# Altium footprint library Control_Board_Model_C201.PcbLib: 124 footprints (part 7 of 8)
Each footprint in its own frame and in the unit in brackets; x right, y up, seen from the top. Pads: shape width x height; smd on the part's side, far side on the other; paste and mask are expansions set on the pad; w line width, h text height; cw(c..) or ccw(c..) is an arc to the next point about the centre after c.
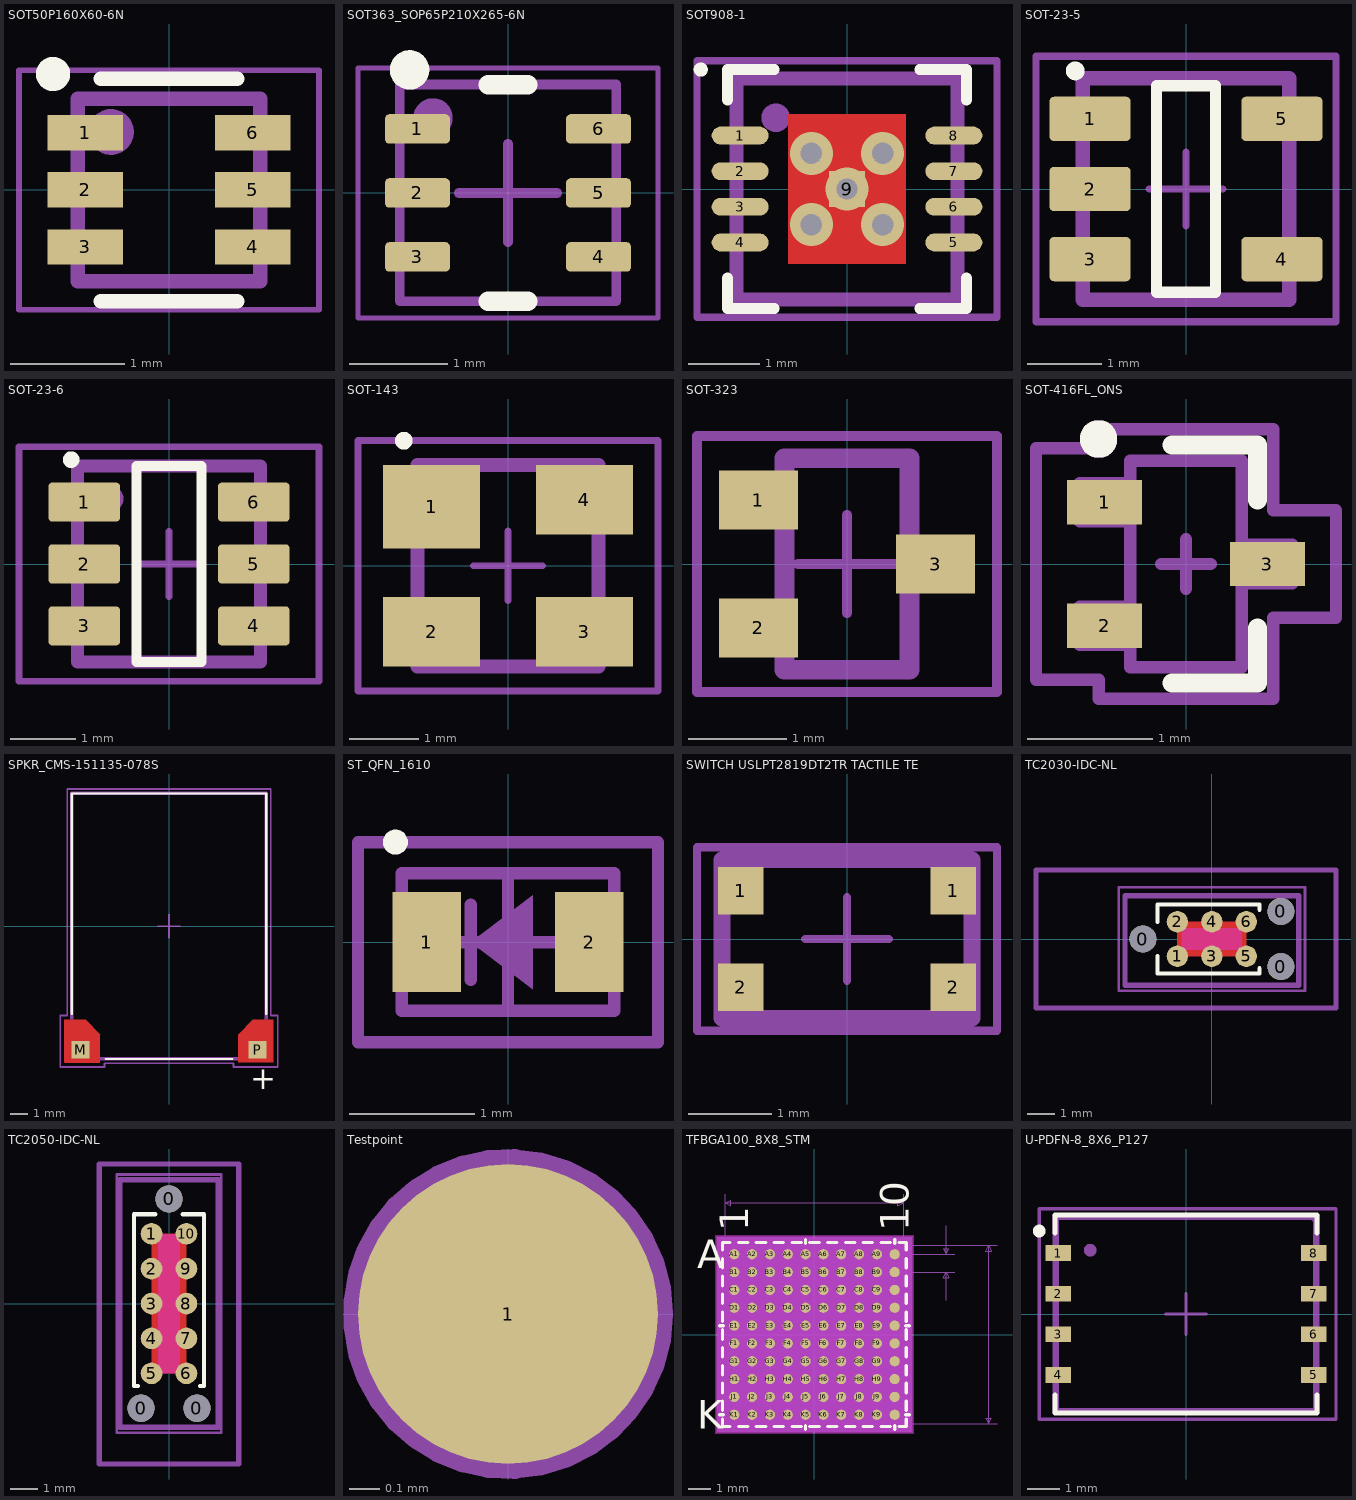
[diagram p6: the footprints below, top view; thin cyan lines are the x and y axes]

## SOT50P160X60-6N [mm]
pads (6):
  rect 0.66x0.31 smd: 1(-0.735,0.5) 2(-0.735,0) 3(-0.735,-0.5) 4(0.735,-0.5) 5(0.735,0) 6(0.735,0.5)
Top Overlay:
  circle w0.2: c-1.016,1.016 r0.05
  lines w0.127: -0.6,-0.975 0.6,-0.975 ; -0.6,0.975 0.6,0.975
Mechanical 14:
  circle w0.2: c-0.508,0.508 r0.1
  lines w0.127: -0.8,-0.8 -0.8,0.8 0.8,0.8 0.8,-0.8 -0.8,-0.8
  text "'.Designator'" at -0.381,-0.254 h0.5
Mechanical 15:
  lines w0.05: -1.315,-1.05 -1.315,1.05 1.315,1.05 1.315,-1.05 -1.315,-1.05
3D body "DRL0006A.stp": height 0.6, standoff 0, extent -0.8,-0.8 0.8,0.8

## SOT363_SOP65P210X265-6N [mm] "SOP, 6-Leads, Body 2.00x1.25mm, Pitch 0.65mm, IPC Medium Density"
height 2.65
pads (6):
  rrect30% 0.66x0.3 smd mask+0.05: 1(-0.92,0.65) 2(-0.92,0) 3(-0.92,-0.65) 4(0.92,-0.65) 5(0.92,0) 6(0.92,0.65)
Top Overlay:
  circle w0.2: c-1,1.25 r0.1
  lines w0.2: -0.2,-1.1 0.2,-1.1 ; -0.2,1.1 0.2,1.1
Mechanical 14:
  circle w0.2: c-0.762,0.762 r0.1
  lines w0.1: -1.1,-1.1 1.1,-1.1 1.1,1.1 -1.1,1.1 -1.1,-1.1
  text "'.Designator'" at -0.508,-0.254 h0.5
Mechanical 15:
  lines w0.05: -1.524,-1.27 1.524,-1.27 1.524,1.27 -1.524,1.27 -1.524,-1.27
  lines w0.1: -0.5,0 0.5,0 ; 0,-0.5 0,0.5
3D body "SOT-363.STEP": height 1.1, standoff 0, extent -1.1,-1.1 1.1,1.1

## SOT908-1 [mm]
pads (9):
  rrect100% 0.8x0.25 smd mask+0.05: 1(-1.5,0.75) 2(-1.5,0.25) 3(-1.5,-0.25) 4(-1.5,-0.75) 5(1.5,-0.75) 6(1.5,-0.25) 7(1.5,0.25) 8(1.5,0.75)
  rect 0.5x0.5 smd mask+0.05: 9(0,0)
via 0,0 diameter 0.605 hole 0.3
via -0.5,0.5 diameter 0.605 hole 0.3
via 0.5,0.5 diameter 0.605 hole 0.3
via 0.5,-0.5 diameter 0.605 hole 0.3
via -0.5,-0.5 diameter 0.605 hole 0.3
Top Layer:
  rectangle: -0.825,-1.05 0.825,1.05
Top Overlay:
  circle w0.1: c-2.052,1.676 r0.05
  lines w0.152: -1.676,-1.251 -1.676,-1.676 -1.021,-1.676 ; -1.676,1.251 -1.676,1.676 -1.021,1.676 ; 1.021,-1.676 1.676,-1.676 1.676,-1.251 ; 1.021,1.676 1.676,1.676 1.676,1.251
Top Paste:
  rectangle: -0.825,-1.05 0.825,1.05
Top Solder:
  rectangle: -0.875,-1.1 0.875,1.1
Mechanical 14:
  circle w0.2: c-1,1 r0.1
  lines w0.2: -1.55,-1.55 1.55,-1.55 1.55,1.55 -1.55,1.55 -1.55,-1.55
  text "'.Designator'" at -0.635,-0.254 h0.5
Mechanical 15:
  lines w0.1: -0.5,0 0.5,0 ; 0,-0.5 0,0.5 ; -2.105,-1.8 2.105,-1.8 2.105,1.8 -2.105,1.8 -2.105,-1.8
3D body "SON50P300X100_HS-9N.step": height 1, standoff 0, extent -1.551,-1.55 1.551,1.55

## SOT-23-5 [mm]
height 1
pads (5):
  rrect20% 1.1x0.6 smd mask+0.05: 1(-1.3,0.95) 2(-1.3,0) 3(-1.3,-0.95) 4(1.3,-0.95) 5(1.3,0.95)
Top Overlay:
  circle w0.152: c-1.5,1.6 r0.051
  lines w0.152: -0.4,-1.4 -0.4,1.4 0.4,1.4 0.4,-1.4 -0.4,-1.4
Mechanical 14:
  circle w0.2: c-1,1 r0.1
  lines w0.2: -1.4,-1.5 -1.4,1.5 1.4,1.5 1.4,-1.5 -1.4,-1.5
  text ".Designator" at -1,-0.2 h0.5
Mechanical 15:
  lines w0.1: -0.5,0 0.5,0 ; 0,-0.5 0,0.5 ; -2.032,-1.8 2.032,-1.8 2.032,1.8 -2.032,1.8 -2.032,-1.8
3D body "SOT-23-5.STEP": height 1.25, standoff 0, extent -1.4,-1.5 1.4,1.5

## SOT-23-6 [mm]
height 1
pads (6):
  rrect20% 1.1x0.6 smd mask+0.05: 1(-1.3,0.95) 2(-1.3,0) 3(-1.3,-0.95) 4(1.3,-0.95) 5(1.3,0) 6(1.3,0.95)
Top Overlay:
  circle w0.152: c-1.5,1.6 r0.051
  lines w0.152: -0.5,-1.5 0.5,-1.5 0.5,1.5 -0.5,1.5 -0.5,-1.5
Mechanical 14:
  circle w0.2: c-0.9,1 r0.1
  lines w0.2: -1.4,-1.5 1.4,-1.5 1.4,1.5 -1.4,1.5 -1.4,-1.5
  text ".Designator" at -1,-0.2 h0.5
Mechanical 15:
  lines w0.1: -0.5,0 0.5,0 ; 0,-0.5 0,0.5 ; -2.3,-1.8 -2.3,1.8 2.3,1.8 2.3,-1.8 -2.3,-1.8
3D body "SOT-23-6 (DBV).STEP": height 1.25, standoff 0, extent -1.4,-1.5 1.4,1.5

## SOT-143 [mm]
height 1.22
pads (4):
  rect 1.4x1.2 smd: 1(-1.1,0.85)
  rect 1.4x1 smd: 2(-1.1,-0.95) 3(1.1,-0.95) 4(1.1,0.95)
Top Overlay:
  circle w0.152: c-1.5,1.8 r0.051
Mechanical 14:
  circle w0.2: c-0.8,1 r0.1
  lines w0.2: -1.3,-1.448 1.3,-1.448 1.3,1.448 -1.3,1.448 -1.3,-1.448
  text "'.Designator'" at -0.8,-0.3 h0.5
Mechanical 15:
  lines w0.1: -0.5,0 0.5,0 ; 0,-0.5 0,0.5 ; -2.159,-1.8 2.159,-1.8 2.159,1.8 -2.159,1.8 -2.159,-1.8
3D body "SOT-143.STEP": height 1.17, standoff 0, extent -1.32,-1.45 1.32,1.45

## SOT-323 [mm]
height 1
pads (3):
  rect 0.8x0.6 smd: 1(-0.9,0.65) 2(-0.9,-0.65) 3(0.9,0)
Mechanical 14:
  circle w0.2: c-1.016,0.635 r0.05
  lines w0.2: -0.635,-1.075 0.635,-1.075 0.635,1.075 -0.635,1.075 -0.635,-1.075
  text "'.Designator'" at -0.7,1.4 h0.5
Mechanical 15:
  lines w0.1: -0.5,0 0.5,0 ; 0,-0.5 0,0.5 ; -1.524,-1.3 -1.524,1.3 1.524,1.3 1.524,-1.3 -1.524,-1.3
3D body "SOT-323.STEP": height 1.05, standoff 0, extent -1.05,-1.075 1.05,1.075

## SOT-416FL_ONS [mm]
pads (3):
  rect 0.6x0.356 smd: 1(-0.65,0.495) 2(-0.65,-0.495) 3(0.65,0)
Top Overlay:
  circle w0.2: c-0.7,1 r0.05
  lines w0.152: -0.111,-0.953 0.572,-0.953 0.572,-0.511 ; -0.111,0.953 0.572,0.953 0.572,0.511
Mechanical 14:
  circle w0.2: c-0.7,1 r0.05
  lines w0.1: -0.851,-0.648 -0.851,-0.343 -0.445,-0.343 -0.445,-0.648 -0.851,-0.648 ; -0.851,0.343 -0.851,0.648 -0.445,0.648 -0.445,0.343 -0.851,0.343 ; -0.445,-0.826 -0.445,0.826 0.445,0.826 0.445,-0.826 -0.445,-0.826 ; 0.445,-0.152 0.445,0.152 0.851,0.152 0.851,-0.152 0.445,-0.152
  text "'.Designator'" at 0.3,-0.7 h0.5
Mechanical 15:
  lines w0.1: -0.2,0 0.2,0 ; 0,-0.2 0,0.2 ; -1.2,-0.927 -0.699,-0.927 -0.699,-1.079 0.699,-1.079 0.699,-0.432 1.2,-0.432 1.2,0.432 0.699,0.432 0.699,1.079 -0.699,1.079 -0.699,0.927 -1.2,0.927 -1.2,-0.927
3D body "SOT-416FL_ONS.step": height 0.89, standoff 0, extent -0.851,-0.826 0.851,0.826

## SPKR_CMS-151135-078S [mm]
pads (2):
  rect 1x1 smd paste-1 mask+0: M(-5,-6.99) P(5,-6.99)
Top Layer:
  region: 5.9,-7.7 3.9,-7.7 3.9,-6.14 4.74,-5.3 5.9,-5.3
  region: -3.9,-6.14 -3.9,-7.7 -5.9,-7.7 -5.9,-5.3 -4.74,-5.3
  lines w0: -5.9,-7.7 -3.9,-7.7 -3.9,-6.14 -4.74,-5.3 -5.9,-5.3 -5.9,-7.7
Top Overlay:
  lines w0.127: -5.5,-4.95 -5.5,7.5 5.5,7.5 5.5,-4.95 ; -3.573,-7.5 3.573,-7.5
  text "+" at 4.6,-9.2 h1.27
Top Paste:
  region: 5.9,-7.7 3.9,-7.7 3.9,-6.14 4.74,-5.3 5.9,-5.3
  region: -3.9,-6.14 -3.9,-7.7 -5.9,-7.7 -5.9,-5.3 -4.74,-5.3
Top Solder:
  region: 6,-7.8 3.8,-7.8 3.8,-6.1 4.7,-5.2 6,-5.2
  region: -3.8,-6.1 -3.8,-7.8 -6,-7.8 -6,-5.2 -4.7,-5.2
Mechanical 14:
  lines w0.2: -5.5,-7.5 5.5,-7.5 5.5,7.5 -5.5,7.5 -5.5,-7.5
  text "+" at 3.33,-5.644 h1.27
  text "'.Designator'" at -1.2,-0.2 h0.5
Mechanical 15:
  lines w0.1: -0.635,0 0.635,0 ; 0,-0.635 0,0.635 ; -6.15,-7.95 -3.65,-7.95 -3.65,-7.75 3.65,-7.75 3.65,-7.95 6.15,-7.95 6.15,-5.05 5.75,-5.05 5.75,7.75 -5.75,7.75 -5.75,-5.05 -6.15,-5.05 -6.15,-7.95
3D body "CUI_DEVICES_CMS-151135-078S.step": height 4.5, standoff 0.02, extent -5.5,-7.493 5.5,7.507

## ST_QFN_1610 [mm] "2-UDFN"
height 0.6
pads (2):
  rect 0.55x0.8 smd: 1(-0.65,0) 2(0.65,0)
Top Overlay:
  circle w0.1: c-0.9,0.8 r0.05
Mechanical 14:
  region: -0.3,0 0.2,0.375 0.2,-0.375
  lines w0.1: -0.3,-0.3 -0.3,0.3 ; -0.85,-0.55 0.85,-0.55 0.85,0.55 -0.85,0.55 -0.85,-0.55
  text "'.Designator'" at -0.8,0.8 h0.5
Mechanical 15:
  lines w0.1: -0.5,0 0.5,0 ; 0,-0.5 0,0.5 ; -1.2,-0.8 1.2,-0.8 1.2,0.8 -1.2,0.8 -1.2,-0.8
3D body "ST_1610.step": height 0.6, standoff 0, extent -0.85,-0.55 0.85,0.55

## SWITCH USLPT2819DT2TR TACTILE TE [mm] "Tactile Switch SPST-NO Top Actuated Surface Mount"
height 0.6
pads (4):
  rect 0.55x0.57 smd: 1(-1.275,0.58) 1(1.275,0.58) 2(-1.275,-0.58) 2(1.275,-0.58)
Mechanical 14:
  lines w0.2: -1.5,-0.95 -1.5,0.95 1.5,0.95 1.5,-0.95 -1.5,-0.95
  text "'.Designator'" at -0.7,-0.2 h0.5
Mechanical 15:
  lines w0.1: -0.5,0 0.5,0 ; 0,-0.5 0,0.5 ; -1.8,-1.1 1.8,-1.1 1.8,1.1 -1.8,1.1 -1.8,-1.1
3D body "c-2337225-1-a-3d.stp": height 0.6, standoff 0, extent -1.5,-0.95 1.5,0.95

## TC2030-IDC-NL [mil] "Tag-Connect 6-Pin with No Legs (PN# TC2030-IDC-NL)"
pads (9):
  round 39 hole 39 unplated paste-20: 0(-100,0) 0(100,-40) 0(100,40)
  round 31 smd paste-16: 1(-50,-25) 2(-50,25) 3(0,-25) 4(0,25) 5(50,-25) 6(50,25)
Top Layer:
  pour cut-out: -50,25 50,25 50,-25 -50,-25
Top Layer keep-out:
  rectangle: -44,-16 44,16
Top Overlay:
  lines w5.98: -78.74,-24.61 -78.74,-50 68.9,-50 68.9,-42.32 ; -78.74,24.61 -78.74,50 68.9,50 68.9,42.32
Mechanical 14:
  lines w7.87: -125.98,-66.93 125.98,-66.93 125.98,62.99 -125.98,62.99 -125.98,-66.93
  text "'.Designator'" at -39.37,-7.87 h19.68
  text "1" at -55.12,-35.43 h19.68
  text "2" at -59.06,15.75 h19.68
  text "3" at -7.87,-35.43 h19.68
  text "4" at -7.87,15.75 h19.68
  text "5" at 43.31,-35.43 h19.68
  text "6" at 43.31,15.75 h19.68
Mechanical 15:
  lines w3.94: -19.68,0 19.68,0 ; 0,-19.68 0,19.68 ; -135,-75 135,-75 135,75 -135,75 -135,-75
Mechanical 19:
  lines w7.87: -255,-100 180,-100 180,100 -255,100 -255,-100

## TC2050-IDC-NL [mil] "Tag-Connect 10-Pin with No Legs (PN# TC2050-IDC-NL)"
pads (13):
  round 39 hole 39 unplated: 0(-40,-150) 0(0,150) 0(40,-150)
  round 31 smd paste-16: 1(-25,100) 2(-25,50) 3(-25,0) 4(-25,-50) 5(-25,-100) 6(25,-100) 7(25,-50) 8(25,0) 9(25,50) 10(25,100)
Top Layer:
  pour cut-out: -25,100 25,100 25,-100 -25,-100
Top Layer keep-out:
  region: -16,100 -16,-100 16,-100 16,100
Top Overlay:
  lines w6: -44.29,-118.11 -50,-118.11 -50,127.95 -19.68,127.95 ; 19.68,127.95 50,127.95 50,-118.11 44.29,-118.11
Mechanical 14:
  lines w7.87: -70.87,-177.17 70.87,-177.17 70.87,177.17 -70.87,177.17 -70.87,-177.17
  text "6" at 19.68,-106.3 h19.68
  text "5" at -31.5,-110.24 h19.68
  text "4" at -35.43,-59.06 h19.68
  text "7" at 19.68,-59.06 h19.68
  text "3" at -31.5,-7.87 h19.68
  text "8" at 19.68,-7.87 h19.68
  text "2" at -31.5,39.37 h19.68
  text "9" at 19.68,39.37 h19.68
  text "1" at -27.56,90.55 h19.68
  text "10" at 11.81,90.55 h19.68
  text "'.Designator'" at -78.74,192.91 h19.68
Mechanical 15:
  lines w3.94: -19.68,0 19.68,0 ; 0,-19.68 0,19.68 ; -74.8,-185.04 -74.8,185.04 74.8,185.04 74.8,-185.04 -74.8,-185.04
Mechanical 19:
  lines w7.87: -100,-230 -100,200 100,200 100,-230 -100,-230

## Testpoint [mm] "Test Point"
height 0.025
pads (1):
  round 1 smd paste-0.508 mask-0.025: 1(0,0)
Mechanical 14:
  circle w0.1: c0,0 r0.5
  text "'.Designator'" at -0.625,0.625 h0.5
3D body: height -0.19, standoff -0.2, extent -0.496,-0.499 0.5,0.499

## TFBGA100_8X8_STM [mm]
pads (100):
  round 0.457 smd paste+0 mask+0: A1(-3.6,3.6) A2(-2.8,3.6) A3(-2,3.6) A4(-1.2,3.6) A5(-0.4,3.6) A6(0.4,3.6) A7(1.2,3.6) A8(2,3.6) A9(2.8,3.6) A10(3.6,3.6) B1(-3.6,2.8) B2(-2.8,2.8) B3(-2,2.8) B4(-1.2,2.8) B5(-0.4,2.8) B6(0.4,2.8) B7(1.2,2.8) B8(2,2.8) B9(2.8,2.8) B10(3.6,2.8) C1(-3.6,2) C2(-2.8,2) C3(-2,2) C4(-1.2,2) C5(-0.4,2) C6(0.4,2) C7(1.2,2) C8(2,2) C9(2.8,2) C10(3.6,2) D1(-3.6,1.2) D2(-2.8,1.2) D3(-2,1.2) D4(-1.2,1.2) D5(-0.4,1.2) D6(0.4,1.2) D7(1.2,1.2) D8(2,1.2) D9(2.8,1.2) D10(3.6,1.2) E1(-3.6,0.4) E2(-2.8,0.4) E3(-2,0.4) E4(-1.2,0.4) E5(-0.4,0.4) E6(0.4,0.4) E7(1.2,0.4) E8(2,0.4) E9(2.8,0.4) E10(3.6,0.4) F1(-3.6,-0.4) F2(-2.8,-0.4) F3(-2,-0.4) F4(-1.2,-0.4) F5(-0.4,-0.4) F6(0.4,-0.4) F7(1.2,-0.4) F8(2,-0.4) F9(2.8,-0.4) F10(3.6,-0.4) G1(-3.6,-1.2) G2(-2.8,-1.2) G3(-2,-1.2) G4(-1.2,-1.2) G5(-0.4,-1.2) G6(0.4,-1.2) G7(1.2,-1.2) G8(2,-1.2) G9(2.8,-1.2) G10(3.6,-1.2) H1(-3.6,-2) H2(-2.8,-2) H3(-2,-2) H4(-1.2,-2) H5(-0.4,-2) H6(0.4,-2) H7(1.2,-2) H8(2,-2) H9(2.8,-2) H10(3.6,-2) J1(-3.6,-2.8) J2(-2.8,-2.8) J3(-2,-2.8) J4(-1.2,-2.8) J5(-0.4,-2.8) J6(0.4,-2.8) J7(1.2,-2.8) J8(2,-2.8) J9(2.8,-2.8) J10(3.6,-2.8) K1(-3.6,-3.6) K2(-2.8,-3.6) K3(-2,-3.6) K4(-1.2,-3.6) K5(-0.4,-3.6) K6(0.4,-3.6) K7(1.2,-3.6) K8(2,-3.6) K9(2.8,-3.6) K10(3.6,-3.6)
Top Overlay:
  lines w0.152: -4.254,-3.6 -4.085,-3.6 ; -4.254,0.4 -4.085,0.4 ; -4.127,-3.793 -4.127,-4.127 -3.793,-4.127 ; -4.127,-3.407 -4.127,-2.993 ; -4.127,-2.607 -4.127,-2.193 ; -4.127,-1.807 -4.127,-1.393 ; -4.127,-1.007 -4.127,-0.593 ; -4.127,-0.207 -4.127,0.207 ; -4.127,0.593 -4.127,1.007 ; -4.127,1.393 -4.127,1.807 ; -4.127,2.193 -4.127,2.607 ; -4.127,2.993 -4.127,3.407 ; -4.127,3.793 -4.127,4.127 -3.793,4.127 ; -3.407,-4.127 -2.993,-4.127 ; -3.407,4.127 -2.993,4.127 ; -2.607,-4.127 -2.193,-4.127 ; -2.607,4.127 -2.193,4.127 ; -1.807,-4.127 -1.393,-4.127 ; -1.807,4.127 -1.393,4.127 ; -1.007,-4.127 -0.593,-4.127 ; -1.007,4.127 -0.593,4.127 ; -0.4,-4.254 -0.4,-4.085 ; -0.4,4.085 -0.4,4.254 ; -0.207,-4.127 0.207,-4.127 ; -0.207,4.127 0.207,4.127 ; 0.593,-4.127 1.007,-4.127 ; 0.593,4.127 1.007,4.127 ; 1.393,-4.127 1.807,-4.127 ; 1.393,4.127 1.807,4.127 ; 2.193,-4.127 2.607,-4.127 ; 2.193,4.127 2.607,4.127 ; 2.993,-4.127 3.407,-4.127 ; 2.993,4.127 3.407,4.127 ; 3.6,-4.254 3.6,-4.085 ; 3.6,4.085 3.6,4.254 ; 3.793,-4.127 4.127,-4.127 4.127,-3.793 ; 3.793,4.127 4.127,4.127 4.127,3.793 ; 4.085,-3.6 4.254,-3.6 ; 4.085,0.4 4.254,0.4 ; 4.127,-3.407 4.127,-2.993 ; 4.127,-2.607 4.127,-2.193 ; 4.127,-1.807 4.127,-1.393 ; 4.127,-1.007 4.127,-0.593 ; 4.127,-0.207 4.127,0.207 ; 4.127,0.593 4.127,1.007 ; 4.127,1.393 4.127,1.807 ; 4.127,2.193 4.127,2.607 ; 4.127,2.993 4.127,3.407
  text "10" at 4.235,4.635 h1.27
  text "1" at -2.965,4.635 h1.27
  text "K" at -5.27,-4.235 h1.27
  text "A" at -5.27,2.965 h1.27
Bottom Overlay:
  text "10" at 2.965,4.635 h1.27
  text "1" at -4.235,4.635 h1.27
  text "K" at -4.635,-4.235 h1.27
  text "A" at -4.635,2.965 h1.27
Keep-Out Layer:
  region: -4.444,-4.444 -4.444,4.444 4.444,4.444 4.444,-4.444
Mechanical 5:
  region: 4.381,-4.381 -4.381,-4.381 -4.381,4.381 4.381,4.381
Mechanical 7:
  lines w0.025: -4,0 -4,6.286 ; 0,-4 8.191,-4 ; 0,4 8.191,4 ; 3.6,2.8 6.286,2.8 ; 3.6,3.6 6.286,3.6 ; 4,0 4,6.286 ; 5.905,1.53 5.905,2.8 ; 5.905,4.87 5.905,3.6 ; -4,5.905 -3.746,5.778 -3.746,6.032 -4,5.905 ; -4,5.905 4,5.905 ; 4,5.905 3.746,5.778 3.746,6.032 4,5.905 ; 5.905,2.8 6.032,2.546 5.778,2.546 5.905,2.8 ; 5.905,3.6 6.032,3.854 5.778,3.854 5.905,3.6 ; 7.81,-4 7.937,-3.746 7.683,-3.746 7.81,-4 ; 7.81,-4 7.81,4 ; 7.81,4 7.937,3.746 7.683,3.746 7.81,4
  text "0.315in/8mm" at 8.318,-0.318 h0.64
  text "0.315in/8mm" at -1.746,6.413 h0.64
  text "0.031in/0.8mm" at 6.413,2.882 h0.64
  text "Default Padstyle: EX18Y18D0T" at -8.89,-9.08 h1.27
Mechanical 13:
  lines w0.025: -4,3.6 -3.6,4 ; -4,-4 -4,4 4,4 4,-4 -4,-4
  text "10" at 4.235,4.635 h1.27
  text "1" at -2.965,4.635 h1.27
  text "K" at -5.27,-4.235 h1.27
  text "A" at -5.27,2.965 h1.27
Mechanical 15:
  region: 4.254,-4.254 -4.254,-4.254 -4.254,4.254 4.254,4.254
  lines w0.152: -4.254,-4.254 4.254,-4.254 4.254,4.254 -4.254,4.254 -4.254,-4.254
3D body: height 0.25, standoff 0, extent 0,0 0.254,0.254
3D body "TFBGA100_8X8_STM.step": height 1.1, standoff 0, extent -4,-4 4,4

## U-PDFN-8_8X6_P127 [mm]
height 0.55
pads (8):
  rect 0.8x0.5 smd mask+0.05: 1(-4,1.905) 2(-4,0.635) 3(-4,-0.635) 4(-4,-1.905) 5(4,-1.905) 6(4,-0.635) 7(4,0.635) 8(4,1.905)
Top Overlay:
  circle w0.2: c-4.6,2.6 r0.1
  lines w0.152: -4.1,-2.54 -4.1,-3.1 4.1,-3.1 4.1,-2.54 ; -4.1,2.54 -4.1,3.1 4.1,3.1 4.1,2.54
Mechanical 14:
  circle w0.2: c-3,2 r0.1
  lines w0.2: -4.085,-3.05 -4.085,3.05 4.085,3.05 4.085,-3.05 -4.085,-3.05 ; 4,3 4,3
  text ".Designator" at -1.1,-0.2 h0.5
Mechanical 15:
  lines w0.1: -0.635,0 0.635,0 ; 0,-0.635 0,0.635 ; -4.6,-3.3 4.7,-3.3 4.7,3.3 -4.6,3.3 -4.6,-3.3
3D body "U-PDFN-8_8X6.step": height 0.55, standoff 0, extent -4.085,-3.05 4.085,3.05